# Altium schematic symbol library ADUM4136BRWZ.SchLib: 1 symbol
Pins are listed as number, name and electrical type; pins without a type are passive.

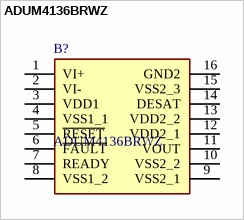
[diagram p0: symbol ADUM4136BRWZ]

## ADUM4136BRWZ
designator B?
Analog Devices ADUM4136BRWZ Isolated Gate Driver MOSFET Power Driver, 4A 16-Pin, SOIC; Geometry.Height: 2.65mm; Mouser Part Number: 584-ADUM4136BRWZ; Mouser Price/Stock: https://www.mouser.co.uk/ProductDetail/Analog-Devices/ADUM4136BRWZ?qs=k%252BwXAfPrzCnA9iFf%252BwzfLg%3D%3D; Manufacturer_Name: Analog Devices; Manufacturer_Part_Number: ADUM4136BRWZ; Datasheet Link: https://datasheet.datasheetarchive.com/originals/distributors/DKDS-11/217546.pdf
footprint SOIC127P1032X265-16N
pins: 1 VI+, 2 VI-, 3 VDD1 (power), 4 VSS1_1, 5 ~{RESET}, 6 ~{FAULT}, 7 READY, 8 VSS1_2, 9 VSS2_1, 10 VSS2_2, 11 VOUT, 12 VDD2_1 (power), 13 VDD2_2 (power), 14 DESAT, 15 VSS2_3, 16 GND2